# Altium footprint library Components - 25.04.20 - 17.11.PcbLib: 3 footprints
Each footprint in its own frame and in the unit in brackets; x right, y up, seen from the top. Pads: shape width x height; smd on the part's side, far side on the other; paste and mask are expansions set on the pad; w line width, h text height; cw(c..) or ccw(c..) is an arc to the next point about the centre after c.
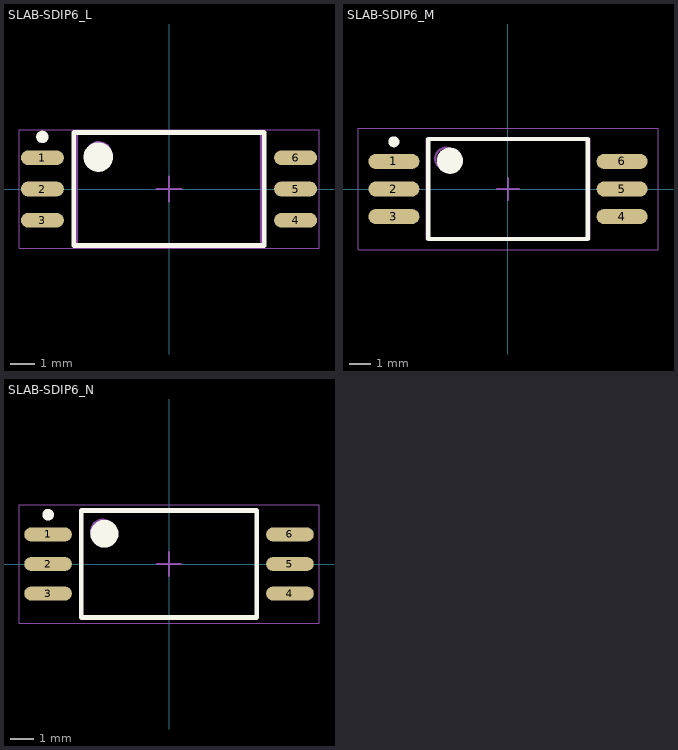
[diagram p0: the footprints below, top view; thin cyan lines are the x and y axes]

## SLAB-SDIP6_L [mm] "SOP, 6-Leads, Body 7.5x4.58mm, Pitch 1.27mm, IPC High Density"
height 2.65
pads (6):
  oval 1.75x0.6 smd: 1(-5.15,1.27) 2(-5.15,0) 3(-5.15,-1.27) 4(5.15,-1.27) 5(5.15,0) 6(5.15,1.27)
Top Overlay:
  circle w0.25: c-5.15,2.12 r0.125
  circle w0.6: c-2.875,1.3 r0.3
  lines w0.2: -3.875,-2.3 -3.875,2.3 3.875,2.3 3.875,-2.3 -3.875,-2.3
Mechanical 13:
  circle w0.1: c-2.85,1.4 r0.5
  lines w0.1: -3.75,-2.3 -3.75,2.3 3.75,2.3 3.75,-2.3 -3.75,-2.3
Mechanical 15:
  lines w0.05: -6.1,-2.4 -6.1,2.4 6.1,2.4 6.1,-2.4 -6.1,-2.4
  lines w0.1: -0.5,0 0.5,0 ; 0,-0.5 0,0.5
3D body: height 2.65, standoff 0.1, extent -3.75,-2.3 3.75,2.3

## SLAB-SDIP6_M [mm] "SOP, 6-Leads, Body 7.5x4.58mm, Pitch 1.27mm, IPC Low Density"
height 2.65
pads (6):
  oval 2.35x0.7 smd: 1(-5.25,1.27) 2(-5.25,0) 3(-5.25,-1.27) 4(5.25,-1.27) 5(5.25,0) 6(5.25,1.27)
Top Overlay:
  circle w0.25: c-5.25,2.17 r0.125
  circle w0.6: c-2.675,1.3 r0.3
  lines w0.2: -3.675,-2.3 -3.675,2.3 3.675,2.3 3.675,-2.3 -3.675,-2.3
Mechanical 13:
  circle w0.1: c-2.85,1.4 r0.5
  lines w0.1: -3.75,-2.3 -3.75,2.3 3.75,2.3 3.75,-2.3 -3.75,-2.3
Mechanical 15:
  lines w0.05: -6.9,-2.8 -6.9,2.8 6.9,2.8 6.9,-2.8 -6.9,-2.8
  lines w0.1: -0.5,0 0.5,0 ; 0,-0.5 0,0.5
3D body: height 2.65, standoff 0.1, extent -3.75,-2.3 3.75,2.3

## SLAB-SDIP6_N [mm] "SOP, 6-Leads, Body 7.5x4.58mm, Pitch 1.27mm, IPC Medium Density"
height 2.65
pads (6):
  oval 2.05x0.6 smd: 1(-5.2,1.27) 2(-5.2,0) 3(-5.2,-1.27) 4(5.2,-1.27) 5(5.2,0) 6(5.2,1.27)
Top Overlay:
  circle w0.25: c-5.2,2.12 r0.125
  circle w0.6: c-2.775,1.3 r0.3
  lines w0.2: -3.775,-2.3 -3.775,2.3 3.775,2.3 3.775,-2.3 -3.775,-2.3
Mechanical 13:
  circle w0.1: c-2.85,1.4 r0.5
  lines w0.1: -3.75,-2.3 -3.75,2.3 3.75,2.3 3.75,-2.3 -3.75,-2.3
Mechanical 15:
  lines w0.05: -6.45,-2.55 -6.45,2.55 6.45,2.55 6.45,-2.55 -6.45,-2.55
  lines w0.1: -0.5,0 0.5,0 ; 0,-0.5 0,0.5
3D body: height 2.65, standoff 0.1, extent -3.75,-2.3 3.75,2.3